# EAGLE library part MAX3471 (library maxim)
RS-485/RS-422 Half-Duplex Differential Transceiver for Battery-Powered Systems
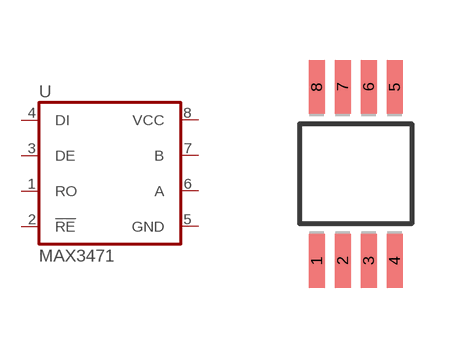
[diagram p398: symbol with the pads of UMAX8; footprint UMAX8]

Designator prefix U

## MAX3471 (P1I: o)  [UMAX8]
1  RO  in
2  !RE!  out
3  DE  pas
4  DI  out
5  GND  pwr
6  A  out
7  B  out
8  VCC  pwr

## Footprint UMAX8 (pad centres in mm)
micro MAX Package
smd 0.4 x 1.35: 1 -0.975,-2.175; 2 -0.325,-2.175; 3 0.325,-2.175; 4 0.975,-2.175; 5 0.975,2.175; 6 0.325,2.175; 7 -0.325,2.175; 8 -0.975,2.175